# Altium schematic symbol library e-switch-slide.SchLib: 1 symbol
Pins are listed as number, name and electrical type; pins without a type are passive.

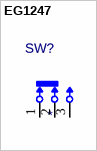
[diagram p0: symbol EG1247]

## EG1247
designator SW?
Slide Switch - Right Angle; PN: *; Value: *; ExtraInfo: *; Package: *
footprint EG1247 (Tact Swithc SMT - Right Angle)
pins: 1, 2, 3